# Altium schematic symbol library IS32FL3207.SchLib: 1 symbol
Pins are listed as number, name and electrical type; pins without a type are passive.

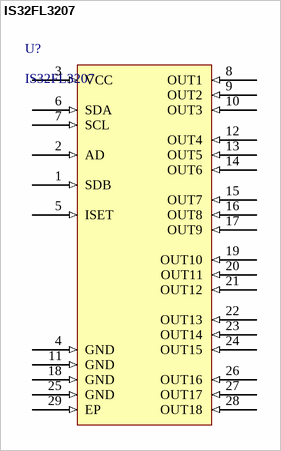
[diagram p0: symbol IS32FL3207]

## IS32FL3207
designator U?
footprint IS32FL3207
pins: 1 SDB (in), 2 AD (in), 3 VCC (in), 4 GND (in), 5 ISET (in), 6 SDA (in), 7 SCL (in), 8 OUT1 (in), 9 OUT2 (in), 10 OUT3 (in), 11 GND (in), 12 OUT4 (in), 13 OUT5 (in), 14 OUT6 (in), 15 OUT7 (in), 16 OUT8 (in), 17 OUT9 (in), 18 GND (in), 19 OUT10 (in), 20 OUT11 (in), 21 OUT12 (in), 22 OUT13 (in), 23 OUT14 (in), 24 OUT15 (in), 25 GND (in), 26 OUT16 (in), 27 OUT17 (in), 28 OUT18 (in), 29 EP (in)